# Altium footprint library Connectors_Power.PcbLib: 2 footprints
Each footprint in its own frame and in the unit in brackets; x right, y up, seen from the top. Pads: shape width x height; smd on the part's side, far side on the other; paste and mask are expansions set on the pad; w line width, h text height; cw(c..) or ccw(c..) is an arc to the next point about the centre after c.
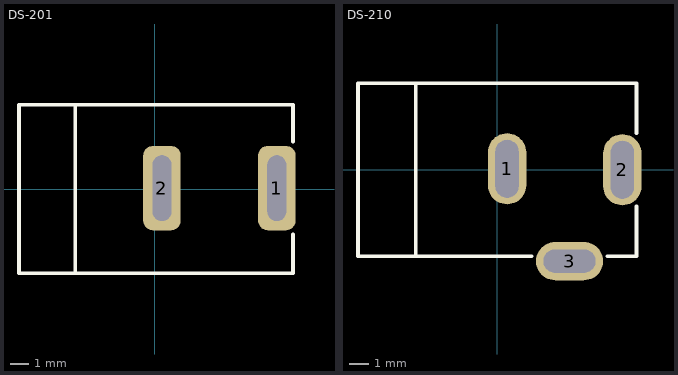
[diagram p0: the footprints below, top view; thin cyan lines are the x and y axes]

## DS-201 [mm]
pads (2):
  rrect50% 2x4.5 hole 1 slot 3.5 at 90 deg: 1(6.504,0.046) 2(0.377,0.046)
Top Overlay:
  lines w0.2: -4.25,-4.5 -4.25,4.5 -7.25,4.5 ; 7.366,-2.413 7.366,-4.5 -7.25,-4.5 -7.25,4.5 ; 7.366,2.54 7.366,4.5 -7.25,4.5 ; 3.75,-4.5 3.75,-4.5
3D body "User Library-ds-210.STEP": height 11.1, standoff -4.3, extent -7.25,-5.05 7.25,4.5

## DS-210 [mm] "DS-210 power connector"
pads (3):
  oval 2x3.7 hole 1.2 slot 3 at 90 deg: 1(0.5,0.05) 2(6.5,0)
  oval 3.5x2 hole 1.2 slot 2.7 at 0 deg: 3(3.75,-4.75)
Top Overlay:
  lines w0.2: -4.25,-4.5 -4.25,4.5 -7.25,4.5 ; 1.778,-4.5 -7.25,-4.5 -7.25,4.5 ; 5.715,-4.5 7.225,-4.5 7.239,-4.5 7.239,-1.905 ; 7.239,1.905 7.239,4.5 ; -7.25,4.5 7.225,4.5 ; 7.225,4.5 7.239,4.5 ; 7.225,4.5 7.239,4.5 ; 3.75,-4.5 3.75,-4.5
3D body "User Library-ds-210.STEP": height 11.1, standoff -4.3, extent -7.25,-5.05 7.25,4.5